# Altium schematic symbol library 原理图-1.SCHLIB: 16 symbols
Pins are listed as number, name and electrical type; pins without a type are passive.

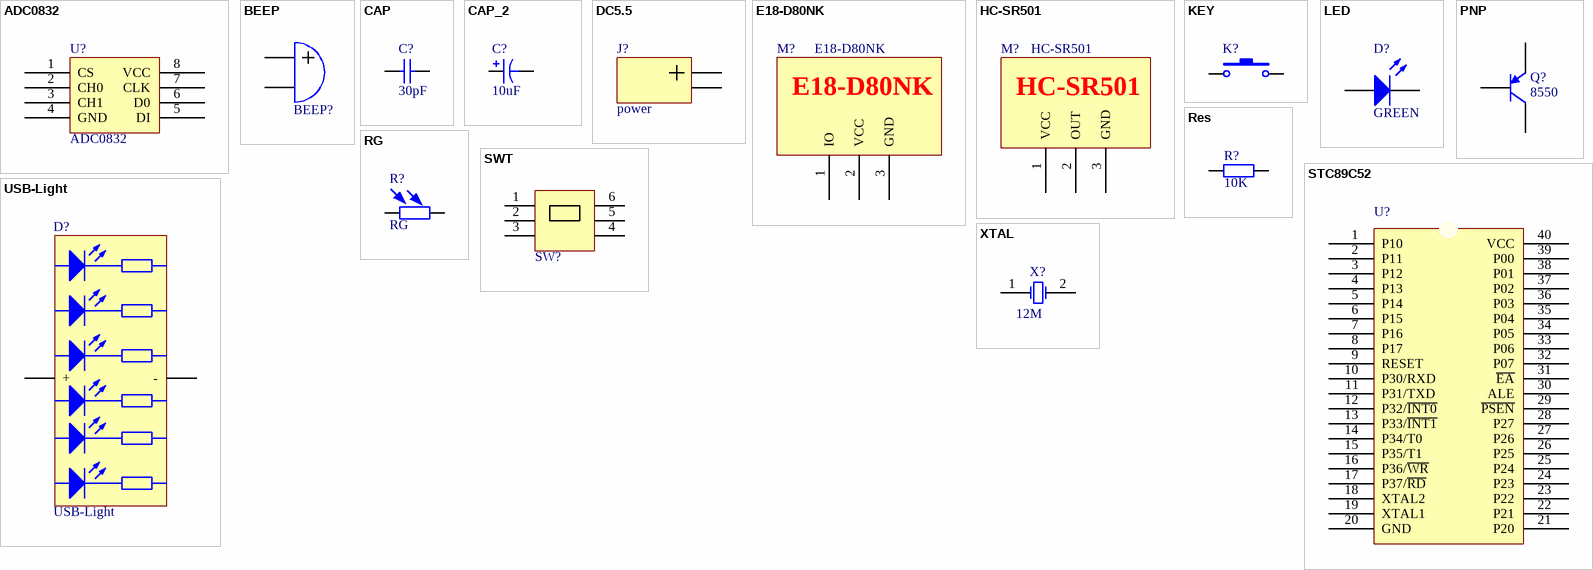
[diagram p0: symbols ADC0832 to XTAL]

## ADC0832
designator U?
footprint DIP8
pins: 1 CS, 2 CH0, 3 CH1, 4 GND, 5 DI, 6 D0, 7 CLK, 8 VCC

## BEEP
designator BEEP?  (value not drawn)
footprint BEEP
pins: 1, 2

## CAP
designator C?, comment 30pF
footprint CAP
footprint CAP
pins: 1, 2

## CAP_2
designator C?, comment 10uF
footprint CAP_2
footprint CAP_2
pins: 1, 2

## DC5.5
designator J?, comment power
footprint DC3.5
pins: 1, 2

## E18-D80NK
designator M?
footprint SIP3
pins: 1 IO, 2 VCC, 3 GND

## HC-SR501
designator M?
footprint HC-SR501
pins: 1 VCC, 2 OUT, 3 GND

## KEY
designator K?  (value not drawn)
footprint KEY
pins: 1, 2

## LED
designator D?, comment GREEN
footprint LED
pins: 1, 2

## PNP
designator Q?, comment 8550
footprint NPN
pins: B, C, E

## Res
designator R?, comment 10K
footprint RES
pins: 1, 2

## RG
designator R?
pins: 1, 2

## STC89C52
designator U?  (value not drawn)
footprint DIP40
pins: 1 P10, 2 P11, 3 P12, 4 P13, 5 P14, 6 P15, 7 P16, 8 P17, 9 RESET, 10 P30/RXD, 11 P31/TXD, 12 P32/~{INT0}, 13 P33/~{INT1}, 14 P34/T0, 15 P35/T1, 16 P36/~{WR}, 17 P37/~{RD}, 18 XTAL2, 19 XTAL1, 20 GND, 21 P20, 22 P21, 23 P22, 24 P23, 25 P24, 26 P25, 27 P26, 28 P27, 29 ~{PSEN}, 30 ALE, 31 ~{EA}, 32 P07, 33 P06, 34 P05, 35 P04, 36 P03, 37 P02, 38 P01, 39 P00, 40 VCC

## SWT
designator SW?  (value not drawn)
footprint SWT
pins: 1 0, 2 1, 3 2, 4 3, 5 4, 6 5

## USB-Light
designator D?
footprint USB-A - 2
pins: 1 +, 2 -

## XTAL
designator X?, comment 12M
footprint XTAL
pins: 1 OSC1, 2 OSC2